# EAGLE library part LM75 (library umaxim)
LM75 - I2C temperature sensor
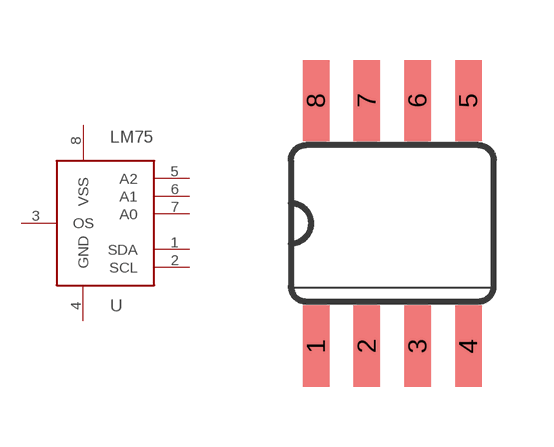
[diagram p0: symbol with the pads of SO08; footprint SO08]

Designator prefix U

## LM75  [SO08]
1  SDA
2  SCL  in
3  OS  out
4  GND
5  A2  in
6  A1  in
7  A0  in
8  VSS

## Footprint SO08 (pad centres in mm)
Small Outline Package SOIC 150 mil
smd 0.66 x 2.032: 1 -1.905,-3.073; 2 -0.635,-3.073; 3 0.635,-3.073; 4 1.905,-3.073; 5 1.905,3.073; 6 0.635,3.073; 7 -0.635,3.073; 8 -1.905,3.073